# Altium schematic symbol library W25Q128JVSIQ.SchLib: 1 symbol
Pins are listed as number, name and electrical type; pins without a type are passive.

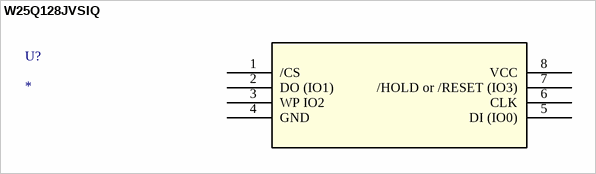
[diagram p0: symbol W25Q128JVSIQ]

## W25Q128JVSIQ
designator U?
No Description Available; Mfr_Name: Winbond; RefDes: RefDes; Type: Type
footprint SOIC_128JVSIQ_WIN
pins: 1 /CS, 2 DO (IO1), 3 WP IO2, 4 GND (power), 5 DI (IO0), 6 CLK, 7 /HOLD or /RESET (IO3), 8 VCC (power)